# EAGLE library part LM3485MMX_NOPB (library LM3485MMX_NOPB)
4.5-35V, Hysteretic Non-Synchronous PFET Buck Controller Source: Datasheet <http://www.ti.com/lit/gpn/lm3485>
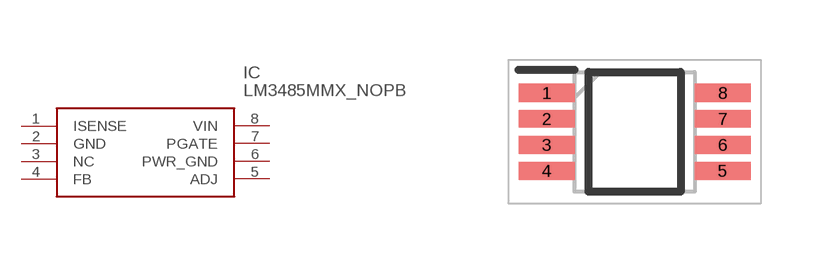
[diagram p0: symbol with the pads of SOP65P490X110-8N; footprint SOP65P490X110-8N]

Designator prefix IC

## LM3485MMX_NOPB (Arrow_Part_Number: LM3485MMX/NOPB; Arrow_Price-Stock: https://www.arrow.com/en/products/lm3485mmxnopb/texas-instruments?utm_currency=USD&region=nac; Description: 4.5-35V, Hysteretic Non-Synchronous PFET Buck Controller; Height: 1.1mm; Manufacturer_Name: Texas Instruments; Manufacturer_Part_Number: LM3485MMX/NOPB; Mouser_Part_Number: 926-LM3485MMX/NOPB; Mouser_Price-Stock: https://www.mouser.co.uk/ProductDetail/Texas-Instruments/LM3485MMX-NOPB?qs=X1J7HmVL2ZGdhzJdAW27lw%3D%3D)  [SOP65P490X110-8N]
1  ISENSE
2  GND
3  NC  nc
4  FB
5  ADJ
6  PWR_GND
7  PGATE
8  VIN

## Footprint SOP65P490X110-8N (pad centres in mm)
DGK (S-PDSO-G8)
smd 1.4 x 0.45: 1 -2.2,0.975; 2 -2.2,0.325; 3 -2.2,-0.325; 4 -2.2,-0.975; 5 2.2,-0.975; 6 2.2,-0.325; 7 2.2,0.325; 8 2.2,0.975